# Altium schematic symbol library SamacSys.SchLib: 28 symbols
Pins are listed as number, name and electrical type; pins without a type are passive.

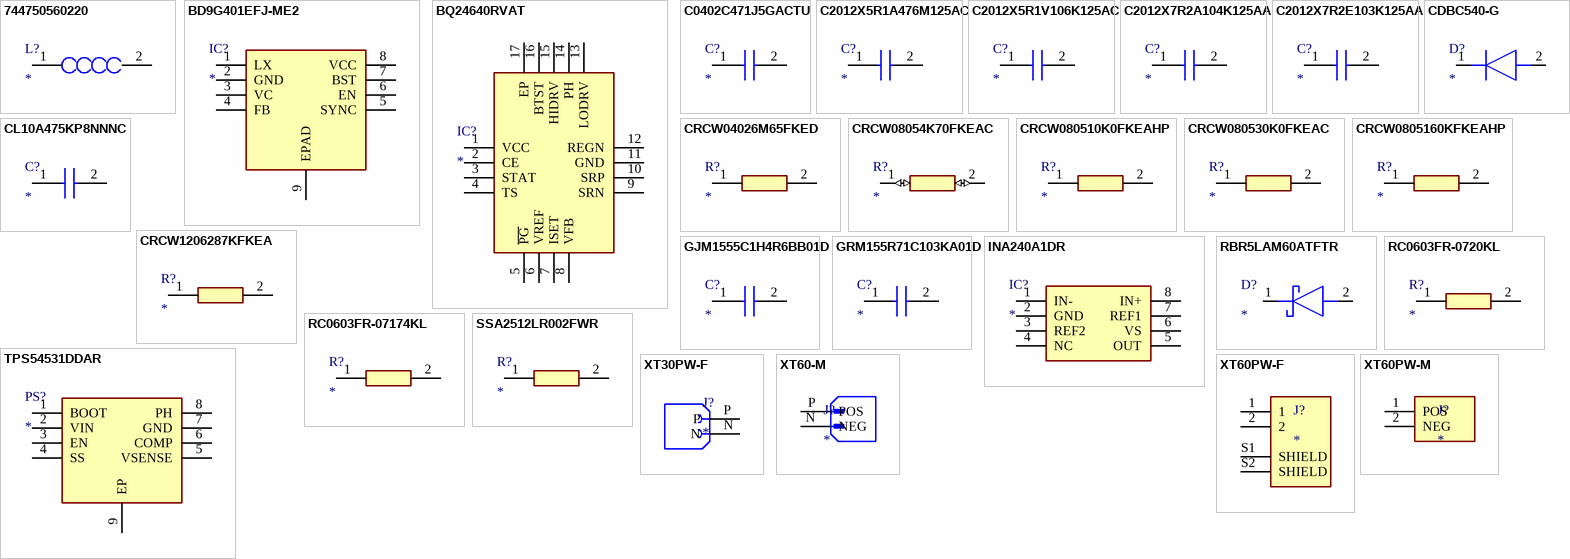
[diagram p0: symbols 744750560220 to XT60PW-M]

## 744750560220
designator L?
Inductor; Manufacturer_Name: Wurth Elektronik; Manufacturer_Part_Number: 744750560220; Datasheet Link: https://componentsearchengine.com/Datasheets/2/744750560220.pdf; Height: 15.8mm; Mouser Part Number: 710-744750560220; Mouser Price/Stock: https://www.mouser.co.uk/ProductDetail/Wurth-Elektronik/744750560220?qs=HXx4m3XcTe10itAwD7FiZQ%3D%3D
footprint 744750560220
pins: 1, 2

## BD9G401EFJ-ME2
designator IC?
Integrated Circuit; Manufacturer_Name: ROHM Semiconductor; Manufacturer_Part_Number: BD9G401EFJ-ME2; Datasheet Link: https://componentsearchengine.com/Datasheets/1/BD9G401EFJ-ME2.pdf; Height: 1mm; Mouser Part Number: 755-BD9G401EFJ-ME2; Mouser Price/Stock: https://www.mouser.co.uk/ProductDetail/ROHM-Semiconductor/BD9G401EFJ-ME2?qs=HXFqYaX1Q2yXryPBxafgDg%3D%3D
footprint SOIC127P600X100-9N
pins: 1 LX, 2 GND, 3 VC, 4 FB, 5 SYNC, 6 EN, 7 BST, 8 VCC, 9 EPAD

## BQ24640RVAT
designator IC?
Integrated Circuit; Manufacturer_Name: Texas Instruments; Manufacturer_Part_Number: BQ24640RVAT; Datasheet Link: http://componentsearchengine.com/Datasheets/1/BQ24640RVAT.pdf; Height: 1mm; Mouser Part Number: 595-BQ24640RVAT; Mouser Price/Stock: https://www.mouser.co.uk/ProductDetail/Texas-Instruments/BQ24640RVAT?qs=BmtUOLWBNQr3LIXwrcRG1w%3D%3D; Arrow Part Number: BQ24640RVAT; Arrow Price/Stock: https://www.arrow.com/en/products/bq24640rvat/texas-instruments?region=europe
footprint QFN50P350X350X100-17N-D
pins: 1 VCC, 2 CE, 3 STAT, 4 TS, 5 ~{PG}, 6 VREF, 7 ISET, 8 VFB, 9 SRN, 10 SRP, 11 GND, 12 REGN, 13 LODRV, 14 PH, 15 HIDRV, 16 BTST, 17 EP

## C0402C471J5GACTU
designator C?
Capacitor; Manufacturer_Name: KEMET; Manufacturer_Part_Number: C0402C471J5GACTU; Datasheet Link: https://content.kemet.com/datasheets/KEM_C1002_X7R_SMD.pdf; Height: 0.55mm; Mouser Part Number: 80-C0402C471J5G; Mouser Price/Stock: https://www.mouser.com/Search/Refine.aspx?Keyword=80-C0402C471J5G; Arrow Part Number: C0402C471J5GACTU; Arrow Price/Stock: https://www.arrow.com/en/products/c0402c471j5gactu/kemet-corporation
footprint C0402C104J4RACTU
pins: 1, 2

## C2012X5R1A476M125AC
designator C?
Capacitor; Manufacturer_Name: TDK; Manufacturer_Part_Number: C2012X5R1A476M125AC; Datasheet Link: https://product.tdk.com/info/en/catalog/datasheets/mlcc_commercial_midvoltage_en.pdf; Height: 1.45mm; Mouser Part Number: 810-C2012X5R1A476M; Mouser Price/Stock: https://www.mouser.co.uk/ProductDetail/TDK/C2012X5R1A476M125AC?qs=LcTL%2F5vFEzGyFw5hxP%2FMXw%3D%3D; Arrow Part Number: C2012X5R1A476M125AC; Arrow Price/Stock: https://www.arrow.com/en/products/c2012x5r1a476m125ac/tdk?region=nac
footprint CAPC2012X145N
pins: 1, 2

## C2012X5R1V106K125AC
designator C?
Capacitor; Manufacturer_Name: TDK; Manufacturer_Part_Number: C2012X5R1V106K125AC; Datasheet Link: https://product.tdk.com/info/en/catalog/datasheets/mlcc_commercial_midvoltage_en.pdf; Height: 1.45mm; Mouser Part Number: 810-C2012X5R1V106K1C; Mouser Price/Stock: https://www.mouser.co.uk/ProductDetail/TDK/C2012X5R1V106K125AC?qs=6JAMGB%252BEdkwcwonKbQLeCg%3D%3D; Arrow Part Number: C2012X5R1V106K125AC; Arrow Price/Stock: https://www.arrow.com/en/products/c2012x5r1v106k125ac/tdk?region=europe
footprint CAPC2012X145N
pins: 1, 2

## C2012X7R2A104K125AA
designator C?
Capacitor; Manufacturer_Name: TDK; Manufacturer_Part_Number: C2012X7R2A104K125AA; Datasheet Link: https://product.tdk.com/info/en/catalog/datasheets/mlcc_commercial_midvoltage_en.pdf; Height: 1.45mm; Mouser Part Number: 810-C2012X7R2A104K; Mouser Price/Stock: https://www.mouser.co.uk/ProductDetail/TDK/C2012X7R2A104K125AA?qs=NRhsANhppD9J0ZsT2%2Fo%2F7Q%3D%3D; Arrow Part Number: C2012X7R2A104K125AA; Arrow Price/Stock: https://www.arrow.com/en/products/c2012x7r2a104k125aa/tdk?region=europe
footprint CAPC2012X145N
pins: 1, 2

## C2012X7R2E103K125AA
designator C?
Capacitor; Manufacturer_Name: TDK; Manufacturer_Part_Number: C2012X7R2E103K125AA; Datasheet Link: https://product.tdk.com/info/en/catalog/datasheets/mlcc_commercial_midvoltage_en.pdf; Height: 1.45mm; Mouser Part Number: 810-C2012X7R2E103K; Mouser Price/Stock: https://www.mouser.co.uk/ProductDetail/TDK/C2012X7R2E103K125AA?qs=NRhsANhppD%2FvPjIeAxskbg%3D%3D; Arrow Part Number: C2012X7R2E103K125AA; Arrow Price/Stock: https://www.arrow.com/en/products/c2012x7r2e103k125aa/tdk?region=nac
footprint CAPC2012X145N
pins: 1, 2

## CDBC540-G
designator D?
Diode; Manufacturer_Name: Comchip Technology; Manufacturer_Part_Number: CDBC540-G; Datasheet Link: https://eu.mouser.com/datasheet/2/80/CDBC520-HF_Thru195340._CDBC5100-HF_RevB-1480991.pdf; Height: 2.9mm; Mouser Part Number: 750-CDBC540-G; Mouser Price/Stock: https://www.mouser.co.uk/ProductDetail/Comchip-Technology/CDBC540-G?qs=tw%252BuQ%2FB6PO2ExpPYY64Vzw%3D%3D; Arrow Part Number: CDBC540-G; Arrow Price/Stock: https://www.arrow.com/en/products/cdbc540-g/comchip-technology?utm_currency=USD&region=nac
footprint DIOM8059X290N
pins: 1 K, 2 A

## CL10A475KP8NNNC
designator C?
Capacitor; Manufacturer_Name: SAMSUNG; Manufacturer_Part_Number: CL10A475KP8NNNC; Datasheet Link: https://www.arrow.com/en/products/cl10a475kp8nnnc/samsung-electro-mechanics; Height: 0.9mm; Mouser Part Number: 187-CL10A475KP8NNNC; Mouser Price/Stock: https://www.mouser.co.uk/ProductDetail/Samsung-Electro-Mechanics/CL10A475KP8NNNC?qs=hqM3L16%252BxlfQRmkWsZz5vA%3D%3D; Arrow Part Number: CL10A475KP8NNNC; Arrow Price/Stock: https://www.arrow.com/en/products/cl10a475kp8nnnc/samsung-electro-mechanics?region=nac
footprint CAPC1608X90N
pins: 1, 2

## CRCW04026M65FKED
designator R?
Resistor; Manufacturer_Name: Vishay; Manufacturer_Part_Number: CRCW04026M65FKED; Datasheet Link: http://www.vishay.com/docs/20035/dcrcwe3.pdf; Height: 0.4mm
footprint RESC1005X40N
pins: 1, 2

## CRCW08054K70FKEAC
designator R?
Resistor; Manufacturer_Name: Vishay; Manufacturer_Part_Number: CRCW08054K70FKEAC; Datasheet Link: https://mouser.componentsearchengine.com/Datasheets/1/CRCW08054K70FKEAC.pdf; Height: 0.6mm; Mouser Part Number: 71-CRCW08054K70FKEAC; Mouser Price/Stock: https://www.mouser.co.uk/ProductDetail/Vishay-Dale/CRCW08054K70FKEAC?qs=E3Y5ESvWgWOQAAVugewEHA%3D%3D; Arrow Part Number: CRCW08054K70FKEAC; Arrow Price/Stock: https://www.arrow.com/en/products/crcw08054k70fkeac/vishay?region=nac
footprint RESC2012X60N
pins: 1 (io), 2 (io)

## CRCW080510K0FKEAHP
designator R?
Resistor; Manufacturer_Name: Vishay; Manufacturer_Part_Number: CRCW080510K0FKEAHP; Datasheet Link: https://componentsearchengine.com/Datasheets/1/CRCW08051R00FKEAHP.pdf; Height: 0.6mm; Mouser Part Number: 71-CRCW080510K0FKEAH; Mouser Price/Stock: https://www.mouser.co.uk/ProductDetail/Vishay-Dale/CRCW080510K0FKEAHP?qs=FlFvgi4rxBybVOW6oiRQjA%3D%3D; Arrow Part Number: CRCW080510K0FKEAHP; Arrow Price/Stock: https://www.arrow.com/en/products/crcw080510k0fkeahp/vishay?utm_currency=USD&region=europe
footprint RESC2012X60N
pins: 1, 2

## CRCW080530K0FKEAC
designator R?
Resistor; Manufacturer_Name: Vishay; Manufacturer_Part_Number: CRCW080530K0FKEAC; Datasheet Link: https://mouser.componentsearchengine.com/Datasheets/1/CRCW080530K0FKEAC.pdf; Height: 0.6mm; Mouser Part Number: 71-CRCW080530K0FKEAC; Mouser Price/Stock: https://www.mouser.co.uk/ProductDetail/Vishay-Dale/CRCW080530K0FKEAC?qs=E3Y5ESvWgWMYq9MgiyaMow%3D%3D; Arrow Part Number: CRCW080530K0FKEAC; Arrow Price/Stock: https://www.arrow.com/en/products/crcw080530k0fkeac/vishay?region=nac
footprint RESC2012X60N
pins: 1, 2

## CRCW0805160KFKEAHP
designator R?
Resistor; Manufacturer_Name: Vishay; Manufacturer_Part_Number: CRCW0805160KFKEAHP; Datasheet Link: https://componentsearchengine.com/Datasheets/1/CRCW08051R00FKEAHP.pdf; Height: 0.6mm
footprint RESC2012X60N
pins: 1, 2

## CRCW1206287KFKEA
designator R?
Resistor; Manufacturer_Name: Vishay; Manufacturer_Part_Number: CRCW1206287KFKEA; Height: 0.6mm; Mouser Part Number: 71-CRCW1206-287K-E3; Mouser Price/Stock: https://www.mouser.com/Search/Refine.aspx?Keyword=71-CRCW1206-287K-E3
footprint RESC3216X60N
pins: 1, 2

## GJM1555C1H4R6BB01D
designator C?
Capacitor; Manufacturer_Name: Murata Electronics; Manufacturer_Part_Number: GJM1555C1H4R6BB01D; Datasheet Link: https://search.murata.co.jp/Ceramy/image/img/A01X/G101/ENG/GJM1555C1H4R6BB01-01A.pdf; Height: 0.55mm
footprint CAPC1005X55N
pins: 1, 2

## GRM155R71C103KA01D
designator C?
Capacitor; Manufacturer_Name: Murata Electronics; Manufacturer_Part_Number: GRM155R71C103KA01D; Datasheet Link: https://search.murata.co.jp/Ceramy/image/img/A01X/G101/ENG/GRM155R71C103KA01-01A.pdf; Height: 0.7mm; Mouser Part Number: 81-GRM36X103K16; Mouser Price/Stock: https://www.mouser.co.uk/ProductDetail/Murata-Electronics/GRM155R71C103KA01D?qs=8YPuuxuUzMI%252B9QLnzeLwhQ%3D%3D; Arrow Part Number: GRM155R71C103KA01D; Arrow Price/Stock: https://www.arrow.com/en/products/grm155r71c103ka01d/murata-manufacturing?utm_currency=USD&region=nac
footprint CAPC1005X70N
pins: 1, 2

## INA240A1DR
designator IC?
Integrated Circuit; Manufacturer_Name: Texas Instruments; Manufacturer_Part_Number: INA240A1DR; Description: 80V; Datasheet Link: http://www.ti.com/lit/gpn/ina240; Height: 1.75mm; Mouser Part Number: 595-INA240A1DR; Mouser Price/Stock: https://www.mouser.co.uk/ProductDetail/Texas-Instruments/INA240A1DR?qs=AQlKX63v8Rv7XB07RTzuHA%3D%3D; Arrow Part Number: INA240A1DR; Arrow Price/Stock: https://www.arrow.com/en/products/ina240a1dr/texas-instruments?utm_currency=USD&region=nac
footprint SOIC127P600X175-8N
pins: 1 IN-, 2 GND, 3 REF2, 4 NC, 5 OUT, 6 VS, 7 REF1, 8 IN+

## RBR5LAM60ATFTR
designator D?
Schottky Diode; Manufacturer_Name: ROHM Semiconductor; Manufacturer_Part_Number: RBR5LAM60ATFTR; Datasheet Link: https://fscdn.rohm.com/en/products/databook/datasheet/discrete/diode/schottky_barrier/rbr5lam60atftr-e.pdf; Height: 1.05mm; Mouser Part Number: 755-RBR5LAM60ATFTR; Mouser Price/Stock: https://www.mouser.co.uk/ProductDetail/ROHM-Semiconductor/RBR5LAM60ATFTR?qs=4v%252BiZTmLVHGKJkO8tMW4zA%3D%3D
footprint SODFL4725X105N
pins: 1 K, 2 A

## RC0603FR-0720KL
designator R?
Resistor; Manufacturer_Name: KEMET; Manufacturer_Part_Number: RC0603FR-0720KL; Datasheet Link: http://www.yageo.com/documents/recent/PYu-RC0603_51_RoHS_L_v5.pdf; Height: 0.55mm; Mouser Part Number: 603-RC0603FR-0720KL; Mouser Price/Stock: https://www.mouser.co.uk/ProductDetail/YAGEO/RC0603FR-0720KL?qs=VU8sRB4EgwCsxfrjtEIKPQ%3D%3D; Arrow Part Number: RC0603FR-0720KL; Arrow Price/Stock: https://www.arrow.com/en/products/rc0603fr-0720kl/yageo
footprint RESC1608X55N
pins: 1, 2

## RC0603FR-07174KL
designator R?
Resistor; Manufacturer_Name: KEMET; Manufacturer_Part_Number: RC0603FR-07174KL; Datasheet Link: http://www.yageo.com/documents/recent/PYu-RC0603_51_RoHS_L_v5.pdf; Height: 0.55mm; Mouser Part Number: 603-RC0603FR-07174KL; Mouser Price/Stock: https://www.mouser.co.uk/ProductDetail/YAGEO/RC0603FR-07174KL?qs=VU8sRB4EgwAiawu%252B%252BVOCzQ%3D%3D; Arrow Part Number: RC0603FR-07174KL; Arrow Price/Stock: https://www.arrow.com/en/products/rc0603fr-07174kl/yageo
footprint RESC1608X55N
pins: 1, 2

## SSA2512LR002FWR
designator R?
Resistor; Manufacturer_Name: LITTELFUSE; Manufacturer_Part_Number: SSA2512LR002FWR; Description: Two Terminal; Datasheet Link: https://www.littelfuse.com/media?resourcetype=datasheets&itemid=70d56cd7-0fc3-4a62-93c9-7bee8cc82f45&filename=littelfuse-current-shunt-resistor-ssa-datasheet; Height: 0.67mm
footprint SSA2512LR002FWR (Footprint not found)
pins: 1, 2

## TPS54531DDAR
designator PS?
Power Supply; Manufacturer_Name: Texas Instruments; Manufacturer_Part_Number: TPS54531DDAR; Datasheet Link: http://www.ti.com/lit/gpn/tps54531; Height: 1.7mm; Mouser Part Number: 595-TPS54531DDAR; Mouser Price/Stock: https://www.mouser.co.uk/ProductDetail/Texas-Instruments/TPS54531DDAR?qs=jA5Ki6243onykODzUePbag%3D%3D; Arrow Part Number: TPS54531DDAR; Arrow Price/Stock: https://www.arrow.com/en/products/tps54531ddar/texas-instruments?utm_currency=USD&region=nac
footprint SOIC127P600X175-8N
pins: 1 BOOT, 2 VIN, 3 EN, 4 SS, 5 VSENSE, 6 COMP, 7 GND, 8 PH, 9 EP

## XT30PW-F
designator J?
Socket; DC supply; XT30; female; PIN: 2; on PCBs; THT; yellow; 15A; MF: amass; MP: XT30PW-F; SnapEDA_Link: https://www.snapeda.com/parts/XT30PW-F/AMASS/view-part/?ref=snap; Package: None; Value: *; Check_prices: https://www.snapeda.com/parts/XT30PW-F/AMASS/view-part/?ref=eda
footprint AMASS_XT30PW-F
pins: N (power), P (power)

## XT60-M
designator J?
Plug; DC supply; XT60; male; PIN: 2; for cable; soldered; 30A; 500V; MF: AMASS; MP: XT60-M; SnapEDA_Link: https://www.snapeda.com/parts/XT60-M/AMASS/view-part/?ref=snap; Package: Package; Value: *; Check_prices: https://www.snapeda.com/parts/XT60-M/AMASS/view-part/?ref=eda
footprint AMASS_XT60-M
pins: N NEG, P POS

## XT60PW-F
designator J?
Socket DC Supply Connector Female; MP: XT60PW-F; MF: AMASS; SnapEDA_Link: https://www.snapeda.com/parts/XT60PW-F/AMASS/view-part/?ref=snap; Package: Package; Availability: Not in stock; Price: None; Check_prices: https://www.snapeda.com/parts/XT60PW-F/AMASS/view-part/?ref=eda; Value: *
footprint AMASS_XT60PW-F
pins: 1, 2, S1 SHIELD, S2 SHIELD

## XT60PW-M
designator J?
Socket, DC supply, male, PIN: 2; MF: AMASS; MP: XT60PW-M; Check_prices: https://www.snapeda.com/parts/XT60PW-M/AMASS/view-part/?ref=eda; SnapEDA_Link: https://www.snapeda.com/parts/XT60PW-M/AMASS/view-part/?ref=snap; Price: None; Availability: Not in stock; Package: Package; Value: *
footprint AMASS_XT60PW-M
pins: 1 POS, 2 NEG